# EAGLE library part STM32L433CCU6 (library STM32L433CCU6)
STMICROELECTRONICS - STM32L433CCU6 - MCU, ARM CORTEX-M4, 80MHZ, QFN-48 Source: Datasheet <http://www.st.com/content/ccc/resource/technical/document/datasheet/f7/a0/fc/27/24/4e/4f/3f/DM00257192.pdf/files/DM00257192.pdf/jcr:content/translations/en.DM00257192.pdf>
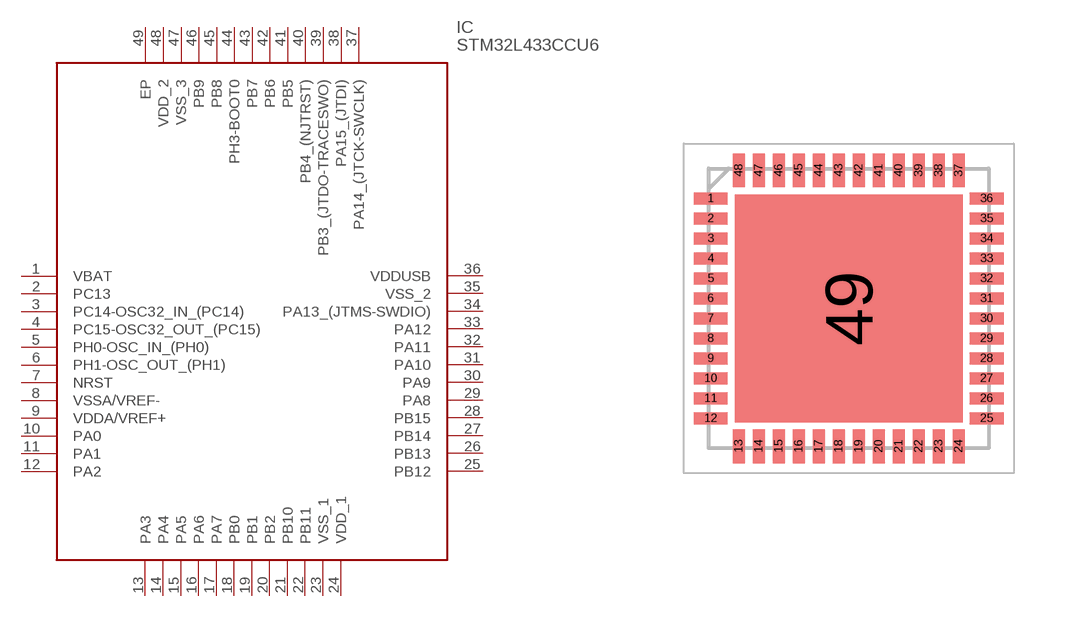
[diagram p0: symbol with the pads of QFN50P700X700X60-49N; footprint QFN50P700X700X60-49N]

Designator prefix IC

## STM32L433CCU6 (Arrow_Part_Number: STM32L433CCU6; Arrow_Price-Stock: https://www.arrow.com/en/products/stm32l433ccu6/stmicroelectronics; Description: STMICROELECTRONICS - STM32L433CCU6 - MCU, ARM CORTEX-M4, 80MHZ, QFN-48; Height: 0.6mm; Manufacturer_Name: STMicroelectronics; Manufacturer_Part_Number: STM32L433CCU6; Mouser_Part_Number: 511-STM32L433CCU6; Mouser_Price-Stock: https://www.mouser.co.uk/ProductDetail/STMicroelectronics/STM32L433CCU6?qs=dTJS0cRn7oiKq9T6SJeUpg%3D%3D)  [QFN50P700X700X60-49N]
1  VBAT  pwr
2  PC13
3  PC14-OSC32_IN_(PC14)
4  PC15-OSC32_OUT_(PC15)
5  PH0-OSC_IN_(PH0)
6  PH1-OSC_OUT_(PH1)
7  NRST
8  VSSA/VREF-  pwr
9  VDDA/VREF+  pwr
10  PA0
11  PA1
12  PA2
13  PA3
14  PA4
15  PA5
16  PA6
17  PA7
18  PB0
19  PB1
20  PB2
21  PB10
22  PB11
23  VSS_1  pwr
24  VDD_1  pwr
25  PB12
26  PB13
27  PB14
28  PB15
29  PA8
30  PA9
31  PA10
32  PA11
33  PA12
34  PA13_(JTMS-SWDIO)
35  VSS_2  pwr
36  VDDUSB  pwr
37  PA14_(JTCK-SWCLK)
38  PA15_(JTDI)
39  PB3_(JTDO-TRACESWO)
40  PB4_(NJTRST)
41  PB5
42  PB6
43  PB7
44  PH3-BOOT0
45  PB8
46  PB9
47  VSS_3  pwr
48  VDD_2  pwr
49  EP

## Footprint QFN50P700X700X60-49N (pad centres in mm)
UFQFPN48_1
smd 0.85 x 0.3: 1 -3.45,2.75; 2 -3.45,2.25; 3 -3.45,1.75; 4 -3.45,1.25; 5 -3.45,0.75; 6 -3.45,0.25; 7 -3.45,-0.25; 8 -3.45,-0.75; 9 -3.45,-1.25; 10 -3.45,-1.75; 11 -3.45,-2.25; 12 -3.45,-2.75; 25 3.45,-2.75; 26 3.45,-2.25; 27 3.45,-1.75; 28 3.45,-1.25; 29 3.45,-0.75; 30 3.45,-0.25; 31 3.45,0.25; 32 3.45,0.75; 33 3.45,1.25; 34 3.45,1.75; 35 3.45,2.25; 36 3.45,2.75
smd 0.3 x 0.85: 13 -2.75,-3.45; 14 -2.25,-3.45; 15 -1.75,-3.45; 16 -1.25,-3.45; 17 -0.75,-3.45; 18 -0.25,-3.45; 19 0.25,-3.45; 20 0.75,-3.45; 21 1.25,-3.45; 22 1.75,-3.45; 23 2.25,-3.45; 24 2.75,-3.45; 37 2.75,3.45; 38 2.25,3.45; 39 1.75,3.45; 40 1.25,3.45; 41 0.75,3.45; 42 0.25,3.45; 43 -0.25,3.45; 44 -0.75,3.45; 45 -1.25,3.45; 46 -1.75,3.45; 47 -2.25,3.45; 48 -2.75,3.45
smd 5.7 x 5.7: 49 0,0